# Altium footprint library PCB - LEADLESS - QFN - TI WQFN-19 RVR0019A.PcbLib: 1 footprints
Each footprint in its own frame and in the unit in brackets; x right, y up, seen from the top. Pads: shape width x height; smd on the part's side, far side on the other; paste and mask are expansions set on the pad; w line width, h text height; cw(c..) or ccw(c..) is an arc to the next point about the centre after c.
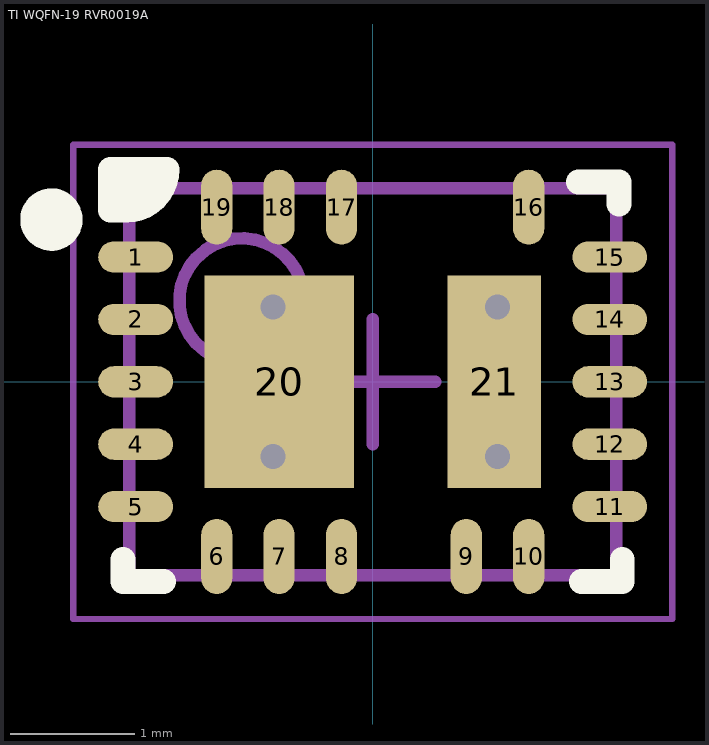
[diagram p0: the footprint, top view; thin cyan lines are the x and y axes]

## TI WQFN-19 RVR0019A [mm] "WQFN, 22-Leads, Body 4.00x3.00mm, Pitch 0.50mm, Thermal Pad 1.20x1.70mm, IPC Medium Density"
height 0.8
pads (21):
  oval 0.6x0.25 smd mask+0.05: 1(-1.9,1) 2(-1.9,0.5) 3(-1.9,0) 4(-1.9,-0.5) 5(-1.9,-1) 11(1.9,-1) 12(1.9,-0.5) 13(1.9,0) 14(1.9,0.5) 15(1.9,1)
  oval 0.25x0.6 smd mask+0.05: 6(-1.25,-1.4) 7(-0.75,-1.4) 8(-0.25,-1.4) 9(0.75,-1.4) 10(1.25,-1.4) 16(1.25,1.4) 17(-0.25,1.4) 18(-0.75,1.4) 19(-1.25,1.4)
  rect 1.2x1.7 smd paste-2539.97 mask+0.102: 20(-0.75,0)
  rect 0.75x1.7 smd paste-2539.97 mask+0.102: 21(0.975,0)
via -0.8,0.6 diameter 0.4 hole 0.2
via -0.8,-0.6 diameter 0.4 hole 0.2
via 1,-0.6 diameter 0.4 hole 0.2
via 1,0.6 diameter 0.4 hole 0.2
Top Overlay:
  circle w0.25: c-2.575,1.3 r0.125
  region: -2.1,1.7 -1.65,1.7 -1.975,1.375 -2.1,1.375
  lines w0.2: -2,-1.425 -2,-1.6 -1.675,-1.6 ; 1.65,1.6 1.975,1.6 1.975,1.425 ; 1.675,-1.6 2,-1.6 2,-1.425 ; -2.1,1.375 -1.975,1.375 ccw(c-1.975,1.7) -1.65,1.7 -2.1,1.7 -2.1,1.375
Top Paste:
  rectangle: 0.6,-0.85 0.775,-0.45
  rectangle: 0.6,0.45 0.775,0.85
  rectangle: -0.45,-0.85 -0.15,-0.45
  rectangle: -1.35,-0.85 -1.15,-0.45
  rectangle: -1.35,0.45 -1.15,0.85
  rectangle: -0.45,0.45 -0.15,0.85
  rectangle: 0.675,-0.3 1.3,0.3
  rectangle: -1.3,-0.3 -0.2,0.3
Top Solder:
  region: 1.4,0.9 1.4,-0.9 1.05,-0.9 1.05,-0.74 1.066,-0.731 1.094,-0.708 1.113,-0.678 1.124,-0.643 1.125,-0.625 1.125,-0.6 1.123,-0.576 1.104,-0.531 1.069,-0.496 1.024,-0.477 1,-0.475 1,0.45 1.024,0.452 1.069,0.471 1.104,0.506 1.123,0.551 1.125,0.575 1.125,0.6 1.124,0.618 1.113,0.653 1.094,0.683 1.066,0.706 1.05,0.715 1.05,0.9
  region: 0.55,0.9 0.55,-0.9 0.95,-0.9 0.95,-0.74 0.934,-0.731 0.906,-0.708 0.887,-0.678 0.876,-0.643 0.875,-0.625 0.875,-0.6 0.877,-0.576 0.896,-0.531 0.931,-0.496 0.976,-0.477 1,-0.475 1,0.45 0.976,0.452 0.931,0.471 0.896,0.506 0.877,0.551 0.875,0.575 0.875,0.6 0.876,0.618 0.887,0.653 0.906,0.683 0.934,0.706 0.95,0.715 0.95,0.9
  region: -0.1,0.9 -0.1,-0.9 -0.75,-0.9 -0.75,-0.74 -0.734,-0.731 -0.706,-0.708 -0.687,-0.678 -0.676,-0.643 -0.675,-0.625 -0.675,-0.6 -0.677,-0.576 -0.696,-0.531 -0.731,-0.496 -0.776,-0.477 -0.8,-0.475 -0.8,0.45 -0.776,0.452 -0.731,0.471 -0.696,0.506 -0.677,0.551 -0.675,0.575 -0.675,0.6 -0.676,0.618 -0.687,0.653 -0.706,0.683 -0.734,0.706 -0.75,0.715 -0.75,0.9
  region: -1.4,0.9 -1.4,-0.9 -0.85,-0.9 -0.85,-0.74 -0.866,-0.731 -0.894,-0.708 -0.913,-0.678 -0.924,-0.643 -0.925,-0.625 -0.925,-0.6 -0.923,-0.576 -0.904,-0.531 -0.869,-0.496 -0.824,-0.477 -0.8,-0.475 -0.8,0.45 -0.824,0.452 -0.869,0.471 -0.904,0.506 -0.923,0.551 -0.925,0.575 -0.925,0.6 -0.924,0.618 -0.913,0.653 -0.894,0.683 -0.866,0.706 -0.85,0.715 -0.85,0.9
Mechanical 13:
  circle w0.1: c-1.05,0.65 r0.5
  lines w0.1: -1.95,-1.55 1.95,-1.55 1.95,1.55 -1.95,1.55 -1.95,-1.55
Mechanical 15:
  lines w0.05: -2.4,-1.9 2.4,-1.9 2.4,1.9 -2.4,1.9 -2.4,-1.9
  lines w0.1: -0.5,0 0.5,0 ; 0,-0.5 0,0.5
3D body "TI WQFN-19 RVR0019A.step": height 0.8, standoff 0, extent -1.951,-1.551 1.951,1.551